# Altium schematic symbol library Battery Holder.SchLib: 3 symbols
Pins are listed as number, name and electrical type; pins without a type are passive.

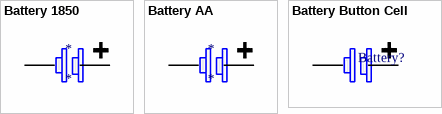
[diagram p0: symbols Battery 1850 to Battery Button Cell]

## Battery 1850
designator *
footprint 18650 Single
footprint 18650 Dual (Holder for Dual 18650 Batteries P/N 1049)
pins: 1 +, 2 -

## Battery AA
designator *
AA battery
footprint AA
pins: 1 +, 2 -

## Battery Button Cell
designator Battery?
Mini Battery
footprint CR2032 (Footprint not found)
footprint CR1220_B (Footprint not found)
footprint CR1220_A (Footprint not found)
footprint CR2032-2 (Footprint not found)
pins: 1 +, 2 -